# Altium footprint library Connectors.PcbLib: 35 footprints (part 1 of 3)
Each footprint in its own frame and in the unit in brackets; x right, y up, seen from the top. Pads: shape width x height; smd on the part's side, far side on the other; paste and mask are expansions set on the pad; w line width, h text height; cw(c..) or ccw(c..) is an arc to the next point about the centre after c.
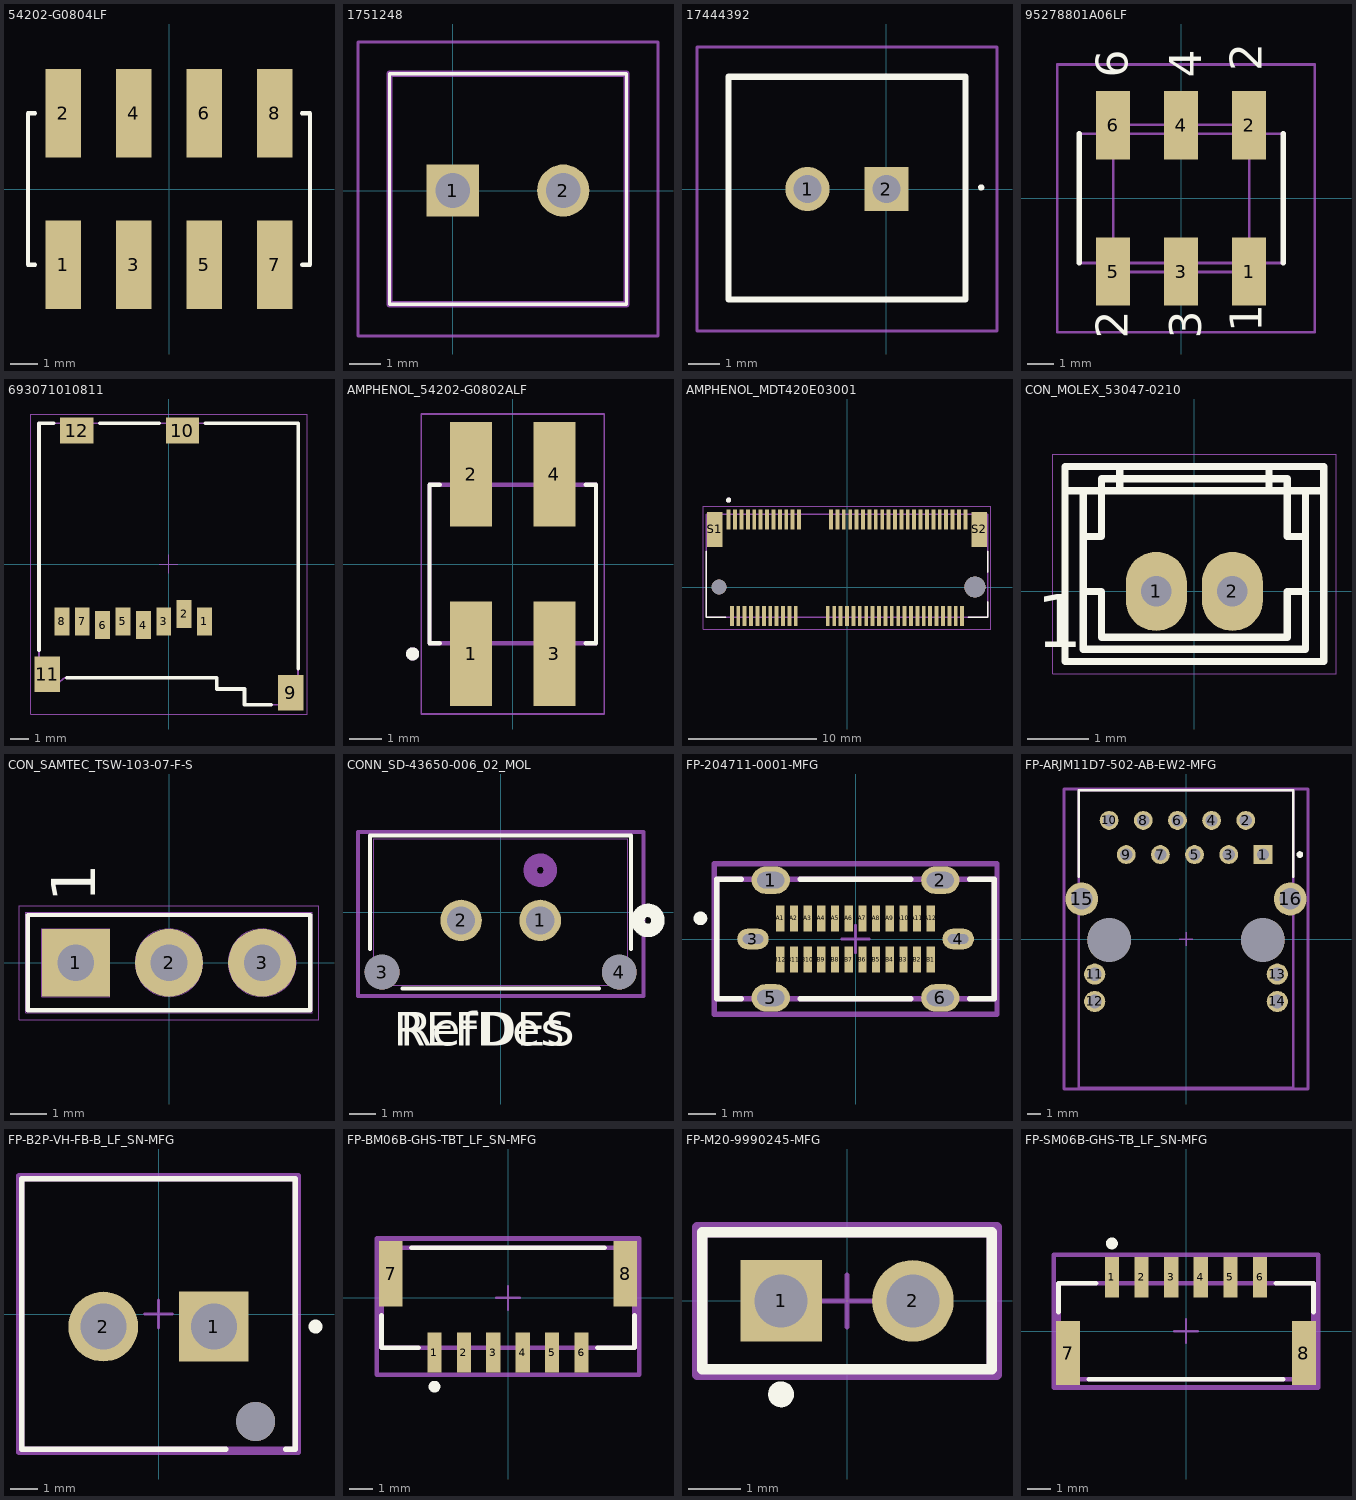
[diagram p0: the footprints below, top view; thin cyan lines are the x and y axes]

## 54202-G0804LF [mm]
pads (8):
  rect 1.27x3.18 smd: 1(-3.81,-2.73) 2(-3.81,2.73) 3(-1.27,-2.73) 4(-1.27,2.73) 5(1.27,-2.73) 6(1.27,2.73) 7(3.81,-2.73) 8(3.81,2.73)
Top Overlay:
  lines w0.152: -4.821,-2.73 -5.08,-2.73 -5.08,2.73 -4.821,2.73 ; 4.791,2.73 5.08,2.73 5.08,-2.73 4.8,-2.73
3D body "95278_y01_08_asm.stp": height 9.61, standoff -0.05, extent -4.88,-4.1 4.88,3.186

## 1751248 [mm]
pads (2):
  rect 1.65x1.65 hole 1.1: 1(0,0)
  round 1.65 hole 1.1: 2(3.5,0)
Top Overlay:
  lines w0.1: -2,-3.6 -2,3.7 5.5,3.7 5.5,-3.6 -2,-3.6
Mechanical 13:
  lines w0.2: -2,-3.6 -2,3.7 5.5,3.7 5.5,-3.6 -2,-3.6
Mechanical 15:
  lines w0.1: -3,-4.6 -3,4.7 6.5,4.7 6.5,-4.6 -3,-4.6
3D body "1751248.stp": height 8.5, standoff -3.5, extent -2,-3.58 5.5,3.72

## 17444392 [mm]
pads (2):
  round 1.4 hole 0.9: 1(-2.5,0)
  rect 1.4x1.4 hole 0.9: 2(0,0)
Top Overlay:
  lines w0.1: 3,0 cw(c3,0.05) 3,0.1 cw(c3,0.05) 3,0
  lines w0.2: -5,-3.5 2.5,-3.5 2.5,3.556 -5,3.556 -5,-3.5
Mechanical 13:
  lines w0.1: -5,-3.5 2.5,-3.5 2.5,3.5 -5,3.5 -5,-3.5
Mechanical 15:
  lines w0.1: -6,-4.5 3.5,-4.5 3.5,4.5 1.125,4.5 -3.625,4.5 -6,4.5 -6,-4.5
3D body "1744439-2.stp": height 8.73, standoff -3.47, extent -5,-3.2 2.5,3.2

## 95278801A06LF [mm]
pads (6):
  rect 1.27x2.54 smd: 1(2.54,-2.73) 2(2.54,2.73) 3(0,-2.73) 4(0,2.73) 5(-2.54,-2.73) 6(-2.54,2.73)
Top Overlay:
  lines w0.2: -3.81,-2.415 -3.81,2.415 ; 3.81,-2.415 3.81,2.415
  text "3" at 0.75,-5.25 h1.2
  text "1" at 3,-5 h1.2
  text "2" at -2,-5.25 h1.2
  text "4" at 0.75,4.5 h1.2
  text "2" at 3,4.75 h1.2
  text "6" at -2,4.5 h1.2
Mechanical 13:
  lines w0.1: -3.81,-2.415 3.81,-2.415 3.81,2.415 -3.81,2.415 -3.81,-2.415 ; -2.54,-2.75 2.54,-2.75 2.54,2.75 -2.54,2.75 -2.54,-2.75
Mechanical 15:
  lines w0.1: -4.63,-5 4.99,-5 4.99,5 -4.63,5 -4.63,-5
3D body "95278-801A06LF.stp": height 9.66, standoff 0, extent -3.434,-3.647 3.786,3.639

## 693071010811 [mm] "Micro SD Card Connector Push & Push - with Card Detection - 8 Pins"
height 1.98
pads (12):
  rect 0.8x1.5 smd: 1(1.94,-3.1) 2(0.84,-2.7) 3(-0.26,-3.1) 4(-1.36,-3.3) 5(-2.46,-3.1) 6(-3.56,-3.3) 7(-4.66,-3.1) 8(-5.76,-3.1)
  rect 1.4x1.9 smd: 9(6.6,-6.95) 11(-6.55,-5.95)
  rect 1.8x1.4 smd: 10(0.75,7.2) 12(-4.95,7.2)
Top Overlay:
  lines w0.2: -7,-4.65 -7,7.6 -6.2,7.6 ; -5.5,-6.15 2.6,-6.15 2.6,-6.75 4.1,-6.75 4.1,-7.6 5.55,-7.6 ; -3.7,7.6 -0.5,7.6 ; 2,7.6 7,7.6 7,-5.65
Top Designator:
  text ".Designator" at -7.497,-0.5 h1.5
Top Courtyard:
  lines w0.05: -0.5,0 0.5,0 ; 0,-0.5 0,0.5 ; -7.45,-8.1 7.5,-8.1 7.5,8.1 -7.45,8.1 -7.45,-8.1
Top Component Outline:
  lines w0.1: -6.2,-6.6 -7,-6.6 -7,7.6 7,7.6 7,-7.6 4.1,-7.6 4.1,-6.75 2.6,-6.75 2.6,-6.15 -5.6,-6.15 -6.199,-6.601
3D body "693071010811.stp": height 1.85, standoff -0.05, extent -7,-7.61 7,7.6

## AMPHENOL_54202-G0802ALF [mm]
height 9.85
pads (4):
  rect 1.27x3.18 smd: 1(-1.27,-2.73) 2(-1.27,2.73) 3(1.27,-2.73) 4(1.27,2.73)
Top Overlay:
  circle w0.2: c-3.05,-2.737 r0.1
  lines w0.127: -2.225,-2.415 -2.54,-2.415 -2.54,2.415 -2.225,2.415 ; 2.225,-2.415 2.54,-2.415 2.54,2.415 2.225,2.415
Mechanical 13:
  circle w0.2: c-3.05,-2.737 r0.1
  lines w0.127: -2.54,-2.415 -2.54,2.415 2.54,2.415 2.54,-2.415 -2.54,-2.415
Mechanical 15:
  lines w0.05: -2.79,-4.57 -2.79,4.57 2.79,4.57 2.79,-4.57 -2.79,-4.57
3D body "step_temp.STEP": height 9.65, standoff 0, extent -2.54,-3.685 2.54,3.685

## AMPHENOL_MDT420E03001 [mm]
height 4.2
pads (71):
  rect 0.3x1.55 smd mask+0.051: 1(-9.25,5.275) 2(-9,-2.275) 3(-8.75,5.275) 4(-8.5,-2.275) 5(-8.25,5.275) 6(-8,-2.275) 7(-7.75,5.275) 8(-7.5,-2.275) 9(-7.25,5.275) 10(-7,-2.275) 11(-6.75,5.275) 12(-6.5,-2.275) 13(-6.25,5.275) 14(-6,-2.275) 15(-5.75,5.275) 16(-5.5,-2.275) 17(-5.25,5.275) 18(-5,-2.275) 19(-4.75,5.275) 20(-4.5,-2.275) 21(-4.25,5.275) 22(-4,-2.275) 23(-3.75,5.275) 32(-1.5,-2.275) 33(-1.25,5.275) 34(-1,-2.275) 35(-0.75,5.275) 36(-0.5,-2.275) 37(-0.25,5.275) 38(0,-2.275) 39(0.25,5.275) 40(0.5,-2.275) 41(0.75,5.275) 42(1,-2.275) 43(1.25,5.275) 44(1.5,-2.275) 45(1.75,5.275) 46(2,-2.275) 47(2.25,5.275) 48(2.5,-2.275) 49(2.75,5.275) 50(3,-2.275) 51(3.25,5.275) 52(3.5,-2.275) 53(3.75,5.275) 54(4,-2.275) 55(4.25,5.275) 56(4.5,-2.275) 57(4.75,5.275) 58(5,-2.275) 59(5.25,5.275) 60(5.5,-2.275) 61(5.75,5.275) 62(6,-2.275) 63(6.25,5.275) 64(6.5,-2.275) 65(6.75,5.275) 66(7,-2.275) 67(7.25,5.275) 68(7.5,-2.275) 69(7.75,5.275) 70(8,-2.275) 71(8.25,5.275) 72(8.5,-2.275) 73(8.75,5.275) 74(9,-2.275) 75(9.25,5.275)
  rect 1.2x2.75 smd mask+0.051: S1(-10.35,4.5) S2(10.35,4.5)
  round 1.15 hole 1.15 unplated mask+0.051: ""(-10,0)
  round 1.65 hole 1.65 unplated mask+0.051: ""(10,0)
Top Overlay:
  circle w0.2: c-9.25,6.796 r0.1
  lines w0.127: -11,2.805 -11,-2.35 -9.47,-2.35 ; 9.47,-2.35 11,-2.35 11,-1.145 ; 11,1.145 11,2.805
Mechanical 13:
  circle w0.2: c-9.25,6.796 r0.1
  lines w0.127: -11,-2.35 -11,5.7 11,5.7 11,-2.35 -11,-2.35
Mechanical 15:
  lines w0.05: -11.25,-3.3 11.25,-3.3 11.25,6.3 -11.25,6.3 -11.25,-3.3
3D body "step_temp.STEP": height 4.2, standoff -0.6, extent -11,-2.85 11,5.7

## CON_MOLEX_53047-0210 [mm]
pads (2):
  oval 1x1.3 hole 0.5 mask+0.05: 1(-0.625,0) 2(0.625,0)
Top Overlay:
  lines w0.12: -2.125,1.65 -1.825,1.65 ; -1.825,0 -1.525,0 -1.525,-0.75 1.525,-0.75 1.525,0 1.825,0 ; -1.825,0.9 -1.525,0.9 -1.525,1.65 ; -1.225,1.65 -1.225,2.05 ; 1.225,1.65 1.225,2.05 ; 1.825,0.9 1.525,0.9 1.525,1.65 ; 2.125,1.65 1.925,1.65 1.825,1.65 ; -1.825,1.65 -1.525,1.65 ; -1.825,1.65 -1.825,-0.95 1.825,-0.95 1.825,1.65 ; -1.525,1.65 1.525,1.65 ; -1.525,1.65 -1.525,1.85 -1.5,1.85 1.525,1.85 1.525,1.65 ; 1.525,1.65 1.825,1.65 ; -2.125,-1.15 2.125,-1.15 2.125,2.05 -2.125,2.05 -2.125,-1.15
  text "1" at -2.6,-1.2 h1.5
Bottom Designator:
  lines w0.01: -2.125,1.65 -1.825,1.65 ; -1.825,0 -1.525,0 -1.525,-0.75 1.525,-0.75 1.525,0 1.825,0 ; -1.825,0.9 -1.525,0.9 -1.525,1.65 ; -1.225,1.65 -1.225,2.05 ; 1.225,1.65 1.225,2.05 ; 1.825,0.9 1.525,0.9 1.525,1.65 ; 2.125,1.65 1.925,1.65 1.825,1.65 ; -1.825,1.65 -1.825,-0.95 1.825,-0.95 1.825,1.65 ; -1.825,1.65 -1.525,1.65 ; -1.525,1.65 -1.525,1.85 -1.5,1.85 1.525,1.85 1.525,1.65 ; -1.525,1.65 1.525,1.65 ; -0.825,-0.4 -0.425,-0.4 ; -0.825,-0.4 -0.825,0.4 ; -0.825,-0.4 -0.675,-0.25 ; -0.825,0.4 -0.425,0.4 ; -0.825,0.4 -0.675,0.25 ; -0.675,-0.25 -0.675,0.25 ; -0.675,-0.25 -0.575,-0.25 ; -0.675,0.25 -0.575,0.25 ; -0.575,-0.25 -0.425,-0.4 ; -0.575,-0.25 -0.575,0.25 ; -0.575,0.25 -0.425,0.4 ; -0.425,-0.4 -0.425,0.4 ; 0.425,-0.4 0.575,-0.25 ; 0.425,-0.4 0.425,0.4 ; 0.425,-0.4 0.825,-0.4 ; 0.425,0.4 0.575,0.25 ; 0.425,0.4 0.825,0.4 ; 0.575,-0.25 0.675,-0.25 ; 0.575,-0.25 0.575,0.25 ; 0.575,0.25 0.675,0.25 ; 0.675,-0.25 0.675,0.25 ; 0.675,-0.25 0.825,-0.4 ; 0.675,0.25 0.825,0.4 ; 0.825,-0.4 0.825,0.4 ; 1.525,1.65 1.825,1.65 ; -2.125,-1.15 -2.125,2.05 2.125,2.05 2.125,-1.15 -2.125,-1.15 ; -0.775,-0.35 -0.775,0.35 -0.475,0.35 -0.475,-0.35 -0.775,-0.35 ; 0.475,-0.35 0.775,-0.35 0.775,0.35 0.475,0.35 0.475,-0.35
  text "2" at 0.875,-0.4 h1
  text "1" at -1.125,-0.4 h1
  text "'.Designator'" at -2,-0.5 h0.75
Mechanical 16:
  lines w0.01: -2.325,-1.35 2.325,-1.35 2.325,2.25 -1.75,2.25 -2.325,2.25 -2.325,-1.35
3D body "MOLEX_53047-0210.stp": height 4.2, standoff -2.3, extent -2.125,-1.15 2.125,2.05
3D body: height 4.2, standoff 0, extent -2.125,-1.15 2.125,2.05

## CON_SAMTEC_TSW-103-07-F-S [mm]
pads (3):
  rect 1.85x1.85 / inner round 1.85 / far side rect 1.85x1.85 hole 1 mask+0.05: 1(-2.54,0)
  round 1.85 hole 1 mask+0.05: 2(0,0) 3(2.54,0)
Top Overlay:
  lines w0.12: -3.85,-1.3 -3.85,1.3 3.85,1.3 3.85,-1.3 -3.85,-1.3
  text "1" at -2.015,1.644 h1.2
Mechanical 20:
  lines w0.01: -4.09,-1.55 -4.09,1.55 4.09,1.55 4.09,-1.55 -4.09,-1.55
Mechanical 27:
  circle w0.01: c2.54,0 r0.925
  circle w0.01: c0,0 r0.925
  lines w0.01: -3.91,-1.37 -3.91,1.37 3.91,1.37 3.91,-1.37 -3.91,-1.37 ; -3.465,-0.925 -1.615,-0.925 -1.615,0.925 -3.465,0.925 -3.465,-0.925
  text "1" at -2.73,-0.5 h1
3D body: height 8.38, standoff 0, extent -3.915,-1.375 3.915,1.375
3D body "Samtec-TSW-103-07-F-S.STEP": height 8.38, standoff -2.54, extent -3.805,-1.27 3.815,1.27

## CONN_SD-43650-006_02_MOL [mil]
pads (4):
  round 62 / inner round 60 / far side round 62 hole 42: 1(59.06,-12.55) 2(-59.06,-12.55)
  round 52 / inner round 60 / far side round 52 hole 52 unplated paste-99999 mask+0: 3(-177.17,-89.71) 4(177.17,-89.71)
Top Overlay:
  circle w20: c220,-12.55 r15
  lines w6: -195,-54.92 -195,114.5 195,114.5 195,-54.92 ; -146.93,-114.5 146.93,-114.5
  text "REFDES" at -160,-200 h50
  text "RefDes" at -150,-200 h50
Bottom Overlay:
  circle w20: c220,-12.55 r15
Mechanical 13:
  circle w20: c59.06,62.45 r15
  lines w1: -190,-109.5 -190,109.5 190,109.5 190,-109.5 -190,-109.5
  text "RefDes2" at -170,-195 h50
Mechanical 15:
  lines w6: -213.17,-125.71 213.17,-125.71 213.17,119.5 -213.17,119.5 -213.17,-125.71
3D body "436500215.stp": height 393.7, standoff -121.26, extent -189.96,-110.63 189.96,108.66

## FP-204711-0001-MFG [mm]
pads (30):
  rrect100% 1.4x1 hole 0.6 slot 1 at 0 deg paste-2539.97: 1(-3.1,2.15) 2(3.1,2.15) 5(-3.1,-2.15) 6(3.1,-2.15)
  rrect100% 1.15x0.75 hole 0.35 slot 0.75 at 0 deg paste-2539.97: 3(-3.75,0) 4(3.75,0)
  rect 0.3x0.95 smd paste+0 mask+0.051: A1(-2.75,0.755) A2(-2.25,0.755) A3(-1.75,0.755) A4(-1.25,0.755) A5(-0.75,0.755) A6(-0.25,0.755) A7(0.25,0.755) A8(0.75,0.755) A9(1.25,0.755) A10(1.75,0.755) A11(2.25,0.755) A12(2.75,0.755) B1(2.75,-0.755) B2(2.25,-0.755) B3(1.75,-0.755) B4(1.25,-0.755) B5(0.75,-0.755) B6(0.25,-0.755) B7(-0.25,-0.755) B8(-0.75,-0.755) B9(-1.25,-0.755) B10(-1.75,-0.755) B11(-2.25,-0.755) B12(-2.75,-0.755)
Top Overlay:
  circle w0.25: c-5.67,0.755 r0.125
  lines w0.2: -4.175,-2.18 -5.07,-2.18 -5.07,2.18 -4.175,2.18 ; -2.025,-2.18 2.025,-2.18 ; -2.025,2.18 2.025,2.18 ; 4.175,-2.18 5.07,-2.18 5.07,2.18 4.175,2.18
Top Courtyard:
  lines w0.2: -5.17,-2.75 -5.17,2.75 5.17,2.75 5.17,-2.75 -5.17,-2.75
Top 3D Body:
  lines w0.2: -5.07,-2.18 -5.07,2.18 5.07,2.18 5.07,-2.18 -5.07,-2.18
Top Assembly:
  lines w0.2: -5.17,-2.75 -5.17,2.75 5.17,2.75 5.17,-2.75 -5.17,-2.75
  text ".Designator" at 0,0.188 h1
Top Component Center:
  lines w0.1: -0.5,0 0.5,0 ; 0,-0.5 0,0.5
3D body "Conn_Molex_204711-0001_eec.STEP": height 0.25, standoff 0, extent -5.17,-2.75 5.17,2.75

## FP-ARJM11D7-502-AB-EW2-MFG [mm]
pads (18):
  rect 1.4x1.4 hole 0.9 paste-2539.97 mask+0: 1(5.715,6.275)
  round 1.4 hole 0.9 paste-2539.97 mask+0: 2(4.445,8.815) 3(3.175,6.275) 4(1.905,8.815) 5(0.635,6.275) 6(-0.635,8.815) 7(-1.905,6.275) 8(-3.175,8.815) 9(-4.445,6.275) 10(-5.715,8.815)
  round 1.57 hole 1.02 paste-2539.97 mask+0: 11(-6.785,-2.615) 12(-6.785,-4.645) 13(6.785,-2.615) 14(6.785,-4.645)
  round 2.45 hole 1.6 paste-2539.97 mask+0: 15(-7.75,2.975) 16(7.75,2.975)
  round 3.25 hole 3.25 unplated paste-2539.97 mask+0: ""(-5.715,-0.075) ""(5.715,-0.075)
Top Overlay:
  circle w0.25: c8.465,6.275 r0.125
  lines w0.2: -7.975,4.65 -7.975,11.05 7.975,11.05 7.975,4.65
Top Courtyard:
  lines w0.2: -9.075,-11.15 9.075,-11.15 9.075,11.15 -9.075,11.15 -9.075,-11.15
Top 3D Body:
  lines w0.2: -7.975,-11.05 7.975,-11.05 7.975,11.05 -7.975,11.05 -7.975,-11.05
Top Assembly:
  lines w0.2: -9.075,-11.15 9.075,-11.15 9.075,11.15 -9.075,11.15 -9.075,-11.15
  text ".Designator" at 0,-0.001 h1
Top Component Center:
  lines w0.1: -0.5,0 0.5,0 ; 0,-0.5 0,0.5
3D body "Conn_Abracon_ARJM11D7-502-AB-EW2_eec.STEP": height 0.25, standoff 0, extent -9.075,-11.15 9.075,11.15

## FP-B2P-VH-FB-B_LF_SN-MFG [mm]
pads (3):
  rect 2.5x2.5 hole 1.65: 1(1.98,-0.45)
  round 2.5 hole 1.65: 2(-1.98,-0.45)
  round 1.4 hole 1.4 unplated paste-2539.97 mask+0: ""(3.48,-3.85)
Top Overlay:
  circle w0.25: c5.625,-0.45 r0.125
  lines w0.2: 2.405,-4.85 -4.9,-4.85 -4.9,4.85 4.9,4.85 4.9,-4.85 4.555,-4.85
Top Courtyard:
  lines w0.2: -5,-4.95 -5,4.95 5,4.95 5,-4.95 -5,-4.95
Top 3D Body:
  lines w0.2: -4.9,-4.85 -4.9,4.85 4.9,4.85 4.9,-4.85 -4.9,-4.85
Top Assembly:
  lines w0.2: -5,-4.95 -5,4.95 5,4.95 5,-4.95 -5,-4.95
  text ".Designator" at 0,0.188 h1
Top Component Center:
  lines w0.1: -0.5,0 0.5,0 ; 0,-0.5 0,0.5
3D body "Conn_JST_B2P-VH-FB-B_LF_SN_eec.STEP": height 0.25, standoff 0, extent -5,-4.95 5,4.95

## FP-BM06B-GHS-TBT_LF_SN-MFG [mm]
pads (8):
  rect 0.6x1.7 smd paste+0: 1(-3.125,-2.325) 2(-1.875,-2.325) 3(-0.625,-2.325) 4(0.625,-2.325) 5(1.875,-2.325) 6(3.125,-2.325)
  rect 1x2.8 smd paste+0: 7(-4.975,1.025) 8(4.975,1.025)
Top Overlay:
  circle w0.25: c-3.125,-3.775 r0.125
  lines w0.2: -5.375,-0.75 -5.375,-2.125 -3.8,-2.125 ; -4.1,2.125 4.1,2.125 ; 3.8,-2.125 5.375,-2.125 5.375,-0.75
Top Courtyard:
  lines w0.2: -5.575,-3.275 5.575,-3.275 5.575,2.525 -5.575,2.525 -5.575,-3.275
Top 3D Body:
  lines w0.2: -5.375,-2.125 5.375,-2.125 5.375,2.125 -5.375,2.125 -5.375,-2.125
Top Assembly:
  lines w0.2: -5.575,-3.275 5.575,-3.275 5.575,2.525 -5.575,2.525 -5.575,-3.275
  text ".Designator" at 0,-0.187 h1
Top Component Center:
  lines w0.1: -0.5,0 0.5,0 ; 0,-0.5 0,0.5
3D body "Conn_JST_BM06B-GHS-TBT_LF_SN_eec.STEP": height 0.25, standoff 0, extent -5.575,-3.275 5.575,2.525

## FP-M20-9990245-MFG [mm]
pads (2):
  rect 1.57x1.57 hole 1.02: 1(-1.27,0)
  round 1.57 hole 1.02 paste-2539.97 mask+0: 2(1.27,0)
Top Overlay:
  circle w0.25: c-1.27,-1.8 r0.125
  lines w0.2: -2.79,-1.32 -2.79,1.32 2.79,1.32 2.79,-1.32 -2.79,-1.32
Top Courtyard:
  lines w0.2: -2.89,-1.42 -2.89,1.42 2.89,1.42 2.89,-1.42 -2.89,-1.42
Top 3D Body:
  lines w0.2: -2.79,-1.32 -2.79,1.32 2.79,1.32 2.79,-1.32 -2.79,-1.32
Top Assembly:
  lines w0.2: -2.89,-1.42 -2.89,1.42 2.89,1.42 2.89,-1.42 -2.89,-1.42
  text ".Designator" at 0,0.188 h1
Top Component Center:
  lines w0.1: -0.5,0 0.5,0 ; 0,-0.5 0,0.5
3D body "Conn_Harwin_M20-9990245_eec.STEP": height 0.25, standoff 0, extent -2.89,-1.42 2.89,1.42

## FP-SM06B-GHS-TB_LF_SN-MFG [mm]
pads (8):
  rect 0.6x1.7 smd paste+0: 1(-3.125,2.275) 2(-1.875,2.275) 3(-0.625,2.275) 4(0.625,2.275) 5(1.875,2.275) 6(3.125,2.275)
  rect 1x2.7 smd paste+0: 7(-4.975,-0.925) 8(4.975,-0.925)
Top Overlay:
  circle w0.25: c-3.125,3.7 r0.125
  lines w0.2: -5.375,0.8 -5.375,2.025 -3.8,2.025 ; -4.1,-2.025 4.1,-2.025 ; 3.8,2.025 5.375,2.025 5.375,0.8
Top Courtyard:
  lines w0.2: -5.575,-2.375 5.575,-2.375 5.575,3.225 -5.575,3.225 -5.575,-2.375
Top 3D Body:
  lines w0.2: -5.375,-2.025 5.375,-2.025 5.375,2.025 -5.375,2.025 -5.375,-2.025
Top Assembly:
  lines w0.2: -5.575,-2.375 5.575,-2.375 5.575,3.225 -5.575,3.225 -5.575,-2.375
  text ".Designator" at 0,0.613 h1
Top Component Center:
  lines w0.1: -0.5,0 0.5,0 ; 0,-0.5 0,0.5
3D body "Conn_JST_SM06B-GHS-TB_LF_SN_eec.STEP": height 0.25, standoff 0, extent -5.575,-2.375 5.575,3.225